# EAGLE library part RPI_GPIO* (library connectors)
GPIO Connector for Raspberry Pi.
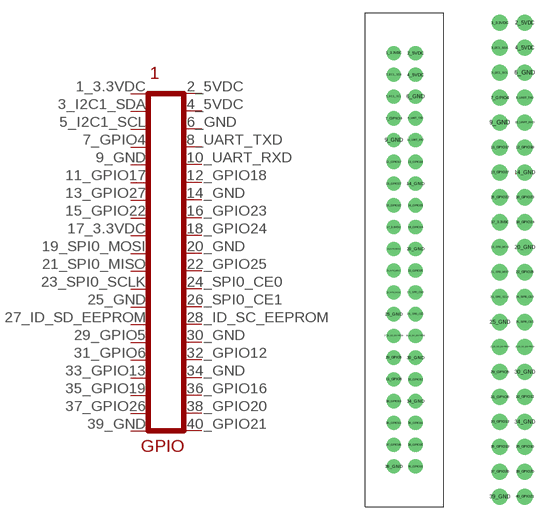
[diagram p0: symbol with the pads of RPI_GPIO_MALE; footprints RPI_GPIO_MALE, RPI_GPIO_FEMALE_BOTTOM]

Designator prefix GPIO

## RPI_GPIO_MALE_SHROUD  [RPI_GPIO_MALE]
1_3.3VDC  1_3.3VDC  pwr
2_5VDC  2_5VDC  pwr
3_I2C1_SDA  3_I2C1_SDA
4_5VDC  4_5VDC  pwr
5_I2C1_SCL  5_I2C1_SCL
6_GND  6_GND  pwr
7_GPIO4  7_GPIO4
8_UART_TXD  8_UART0_TXD
9_GND  9_GND  pwr
10_UART_RXD  10_UART0_RXD
11_GPIO17  11_GPIO17
12_GPIO18  12_GPIO18
13_GPIO27  13_GPIO27
14_GND  14_GND  pwr
15_GPIO22  15_GPIO22
16_GPIO23  16_GPIO23
17_3.3VDC  17_3.3VDC  pwr
18_GPIO24  18_GPIO24
19_SPI0_MOSI  19_SPI0_MOSI
20_GND  20_GND  pwr
21_SPI0_MISO  21_SPI0_MISO
22_GPIO25  22_GPIO25
23_SPI0_SCLK  23_SPI0_SCLK
24_SPI0_CE0  24_SPI0_CE0
25_GND  25_GND  pwr
26_SPI0_CE1  26_SPI0_CE1
27_ID_SD_EEPROM  27_ID_SC_EEPROM
28_ID_SC_EEPROM  28_ID_SC_EEPROM
29_GPIO5  29_GPIO5
30_GND  30_GND  pwr
31_GPIO6  31_GPIO6
32_GPIO12  32_GPIO12
33_GPIO13  33_GPIO13
34_GND  34_GND  pwr
35_GPIO19  35_GPIO19
36_GPIO16  36_GPIO16
37_GPIO26  37_GPIO26
38_GPIO20  38_GPIO20
39_GND  39_GND  pwr
40_GPIO21  40_GPIO21

## RPI_GPIO_FEMALE_LOWER  [RPI_GPIO_FEMALE_BOTTOM]
Pads as for RPI_GPIO_MALE

## RPI_GPIO_MALE_OPEN  [RPI_GPIO_FEMALE_TOP]
Pads as for RPI_GPIO_MALE

## RPI_GPIO_FEMALE_UPPER  [RPI_GPIO_FEMALE_TOP]
Pads as for RPI_GPIO_MALE

## Footprint RPI_GPIO_MALE (pad centres in mm)
drill 1.1: 1_3.3VDC -1.27,24.13; 2_5VDC 1.27,24.13; 3_I2C1_SDA -1.27,21.59; 4_5VDC 1.27,21.59; 5_I2C1_SCL -1.27,19.05; 6_GND 1.27,19.05; 7_GPIO4 -1.27,16.51; 8_UART_TXD 1.27,16.51; 9_GND -1.27,13.97; 10_UART_RXD 1.27,13.97; 11_GPIO17 -1.27,11.43; 12_GPIO18 1.27,11.43; 13_GPIO27 -1.27,8.89; 14_GND 1.27,8.89; 15_GPIO22 -1.27,6.35; 16_GPIO23 1.27,6.35; 17_3.3VDC -1.27,3.81; 18_GPIO24 1.27,3.81; 19_SPI0_MOSI -1.27,1.27; 20_GND 1.27,1.27; 21_SPI0_MISO -1.27,-1.27; 22_GPIO25 1.27,-1.27; 23_SPI0_SCLK -1.27,-3.81; 24_SPI0_CE0 1.27,-3.81; 25_GND -1.27,-6.35; 26_SPI0_CE1 1.27,-6.35; 27_ID_SD_EEPROM -1.27,-8.89; 28_ID_SC_EEPROM 1.27,-8.89; 29_GPIO5 -1.27,-11.43; 30_GND 1.27,-11.43; 31_GPIO6 -1.27,-13.97; 32_GPIO12 1.27,-13.97; 33_GPIO13 -1.27,-16.51; 34_GND 1.27,-16.51; 35_GPIO19 -1.27,-19.05; 36_GPIO16 1.27,-19.05; 37_GPIO26 -1.27,-21.59; 38_GPIO20 1.27,-21.59; 39_GND -1.27,-24.13; 40_GPIO21 1.27,-24.13

## Footprint RPI_GPIO_FEMALE_BOTTOM (pad centres in mm)
drill 1.1: 1_3.3VDC -1.27,24.13; 2_5VDC 1.27,24.13; 3_I2C1_SDA -1.27,21.59; 4_5VDC 1.27,21.59; 5_I2C1_SCL -1.27,19.05; 6_GND 1.27,19.05; 7_GPIO4 -1.27,16.51; 8_UART_TXD 1.27,16.51; 9_GND -1.27,13.97; 10_UART_RXD 1.27,13.97; 11_GPIO17 -1.27,11.43; 12_GPIO18 1.27,11.43; 13_GPIO27 -1.27,8.89; 14_GND 1.27,8.89; 15_GPIO22 -1.27,6.35; 16_GPIO23 1.27,6.35; 17_3.3VDC -1.27,3.81; 18_GPIO24 1.27,3.81; 19_SPI0_MOSI -1.27,1.27; 20_GND 1.27,1.27; 21_SPI0_MISO -1.27,-1.27; 22_GPIO25 1.27,-1.27; 23_SPI0_SCLK -1.27,-3.81; 24_SPI0_CE0 1.27,-3.81; 25_GND -1.27,-6.35; 26_SPI0_CE1 1.27,-6.35; 27_ID_SD_EEPROM -1.27,-8.89; 28_ID_SC_EEPROM 1.27,-8.89; 29_GPIO5 -1.27,-11.43; 30_GND 1.27,-11.43; 31_GPIO6 -1.27,-13.97; 32_GPIO12 1.27,-13.97; 33_GPIO13 -1.27,-16.51; 34_GND 1.27,-16.51; 35_GPIO19 -1.27,-19.05; 36_GPIO16 1.27,-19.05; 37_GPIO26 -1.27,-21.59; 38_GPIO20 1.27,-21.59; 39_GND -1.27,-24.13; 40_GPIO21 1.27,-24.13

## Footprint RPI_GPIO_FEMALE_TOP (pad centres in mm)
drill 1.1: 1_3.3VDC -1.27,24.13; 2_5VDC 1.27,24.13; 3_I2C1_SDA -1.27,21.59; 4_5VDC 1.27,21.59; 5_I2C1_SCL -1.27,19.05; 6_GND 1.27,19.05; 7_GPIO4 -1.27,16.51; 8_UART_TXD 1.27,16.51; 9_GND -1.27,13.97; 10_UART_RXD 1.27,13.97; 11_GPIO17 -1.27,11.43; 12_GPIO18 1.27,11.43; 13_GPIO27 -1.27,8.89; 14_GND 1.27,8.89; 15_GPIO22 -1.27,6.35; 16_GPIO23 1.27,6.35; 17_3.3VDC -1.27,3.81; 18_GPIO24 1.27,3.81; 19_SPI0_MOSI -1.27,1.27; 20_GND 1.27,1.27; 21_SPI0_MISO -1.27,-1.27; 22_GPIO25 1.27,-1.27; 23_SPI0_SCLK -1.27,-3.81; 24_SPI0_CE0 1.27,-3.81; 25_GND -1.27,-6.35; 26_SPI0_CE1 1.27,-6.35; 27_ID_SD_EEPROM -1.27,-8.89; 28_ID_SC_EEPROM 1.27,-8.89; 29_GPIO5 -1.27,-11.43; 30_GND 1.27,-11.43; 31_GPIO6 -1.27,-13.97; 32_GPIO12 1.27,-13.97; 33_GPIO13 -1.27,-16.51; 34_GND 1.27,-16.51; 35_GPIO19 -1.27,-19.05; 36_GPIO16 1.27,-19.05; 37_GPIO26 -1.27,-21.59; 38_GPIO20 1.27,-21.59; 39_GND -1.27,-24.13; 40_GPIO21 1.27,-24.13